# Altium schematic symbol library SparkFun-IC-Amplifiers.SCHLIB: 16 symbols
Pins are listed as number, name and electrical type; pins without a type are passive.

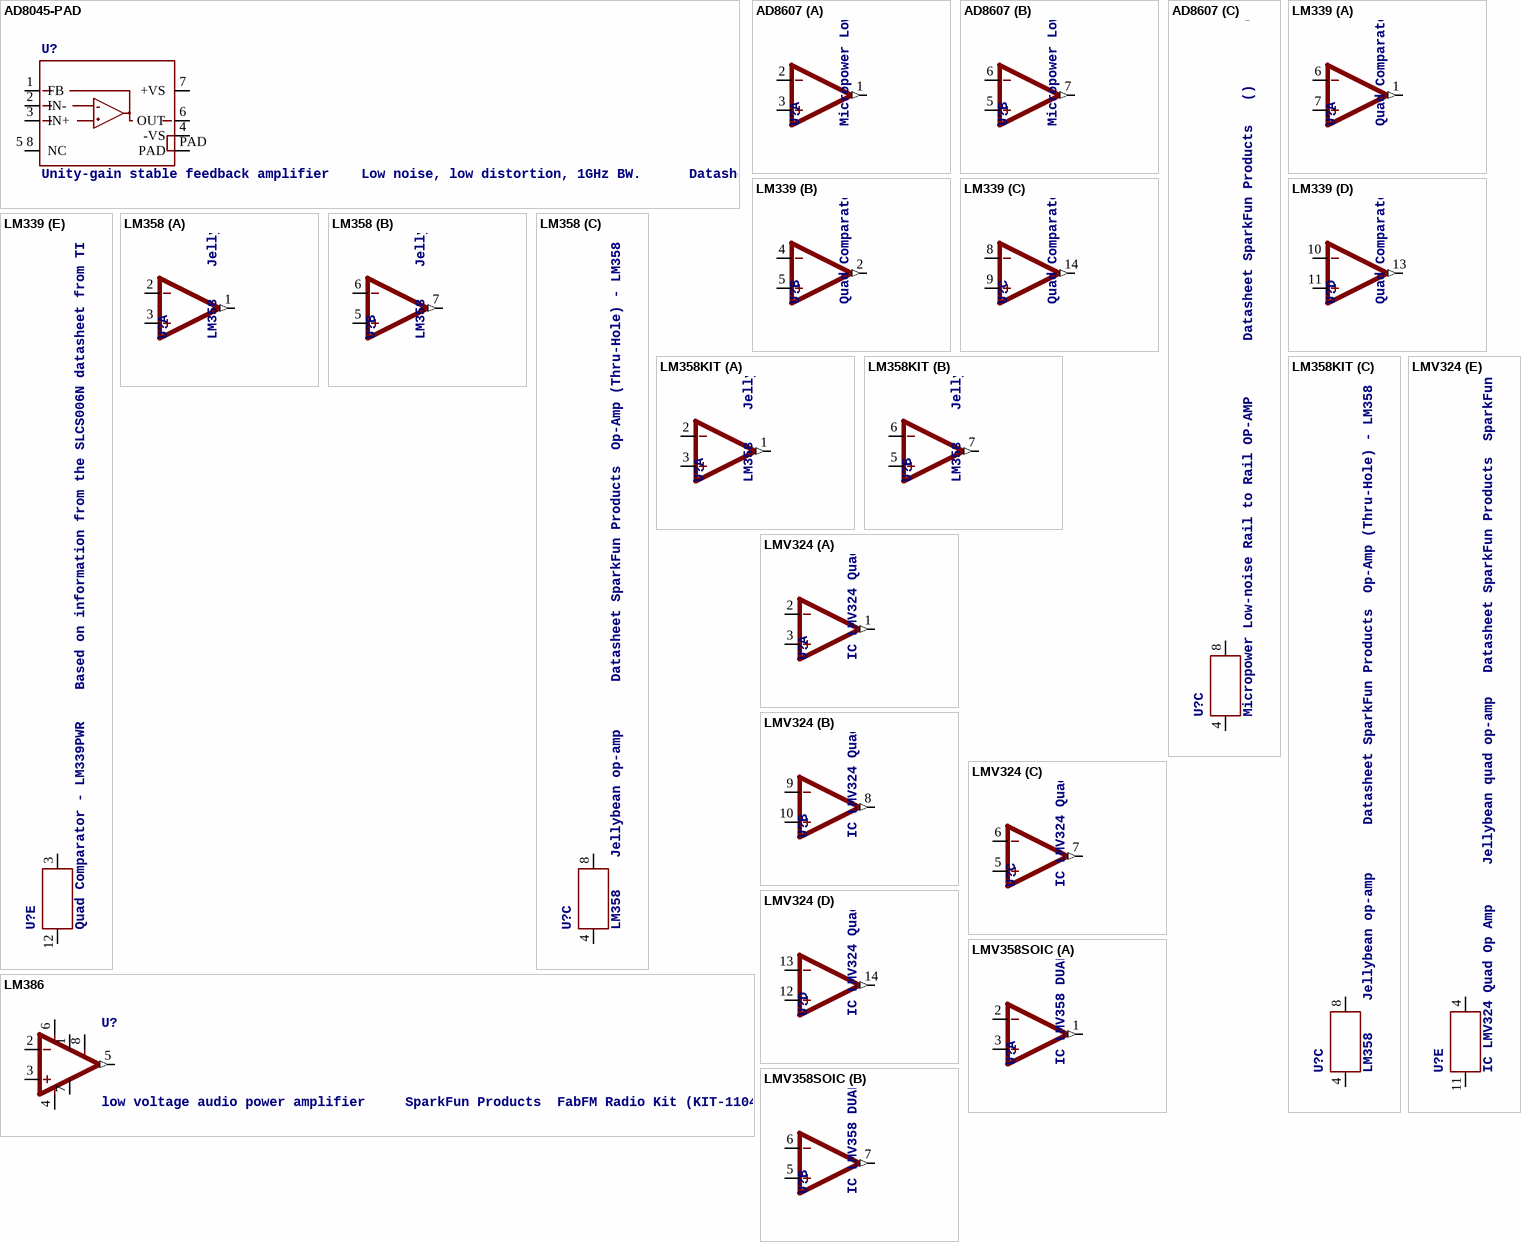
[diagram p0: symbols AD8045-PAD to LMV358SOIC]

## AD8045-PAD
designator U?, comment Unity-gain stable feedback amplifier    Low noise, low distortion, 1GHz BW.      Datasheet SparkFun Products  SparkFun MiniGen - Pro Mini Signal Generator Shield (BOB-11420)
PROD_ID: IC-11224
footprint SO08_PAD
pins: 1 FB, 2 IN-, 3 IN+, 4 -VS (power), 5 8 NC, 6 OUT, 7 +VS (power), PAD (power)

## AD8607
designator U?, comment Micropower Low-noise Rail to Rail OP-AMP       Datasheet SparkFun Products   ()        Currently in prototype (unknown project)
PROD_ID: IC-13133
footprint SO08
part A pins: 1 OUT (out), 2 -IN, 3 +IN
part B pins: 5 +IN, 6 -IN, 7 OUT (out)
part C pins: 4 P$V-, 8 P$V+

## LM339
designator U?, comment Quad Comparator - LM339PWR    Based on information from the SLCS006N datasheet from TI (www.ti.com).   Created by nick@scantool.net, 2008.  Updated 2016. SparkFun Products  SparkFun OBD-II UART (WIG-09555)  SparkFun Car Diagnostics Kit (RTL-10769)
PROD_ID: IC-09990
footprint TSSOP-14
part A pins: 1 OUT (out), 6 -IN, 7 +IN
part B pins: 2 OUT (out), 4 -IN, 5 +IN
part C pins: 8 -IN, 9 +IN, 14 OUT (out)
part D pins: 10 -IN, 11 +IN, 13 OUT (out)
part E pins: 3 P$V+, 12 P$V-

## LM358
designator U?, comment LM358    Jellybean op-amp      Datasheet SparkFun Products  Op-Amp (Thru-Hole) - LM358 (COM-09456)
PROD_ID: IC-09172
footprint DIP08
part A pins: 1 OUT (out), 2 -IN, 3 +IN
part B pins: 5 +IN, 6 -IN, 7 OUT (out)
part C pins: 4 P$V-, 8 P$V+

## LM358KIT
designator U?, comment LM358    Jellybean op-amp      Datasheet SparkFun Products  Op-Amp (Thru-Hole) - LM358 (COM-09456)
PROD_ID: IC-09172
footprint DIP08-KIT
part A pins: 1 OUT (out), 2 -IN, 3 +IN
part B pins: 5 +IN, 6 -IN, 7 OUT (out)
part C pins: 4 P$V-, 8 P$V+

## LM386
designator U?, comment low voltage audio power amplifier     SparkFun Products  FabFM Radio Kit (KIT-11043)
PROD_ID: IC-10899
footprint DIP08
pins: 1 GAIN@1, 2 -IN, 3 +IN, 4 V- (power), 5 OUT (out), 6 V+ (power), 7 BP, 8 GAIN@8

## LMV324
designator U?, comment IC LMV324 Quad Op Amp     Jellybean quad op-amp   Datasheet SparkFun Products  SparkFun Sensor Kit (DEV-13754)  SparkFun Inventor's Kit for Arduino 101 (KIT-13844)  SparkFun Sound Detector (SEN-12642)
PROD_ID: IC-08227
footprint SO14
part A pins: 1 OUT (out), 2 -IN, 3 +IN
part B pins: 8 OUT (out), 9 -IN, 10 +IN
part C pins: 5 +IN, 6 -IN, 7 OUT (out)
part D pins: 12 +IN, 13 -IN, 14 OUT (out)
part E pins: 4 P$V+, 11 P$V-

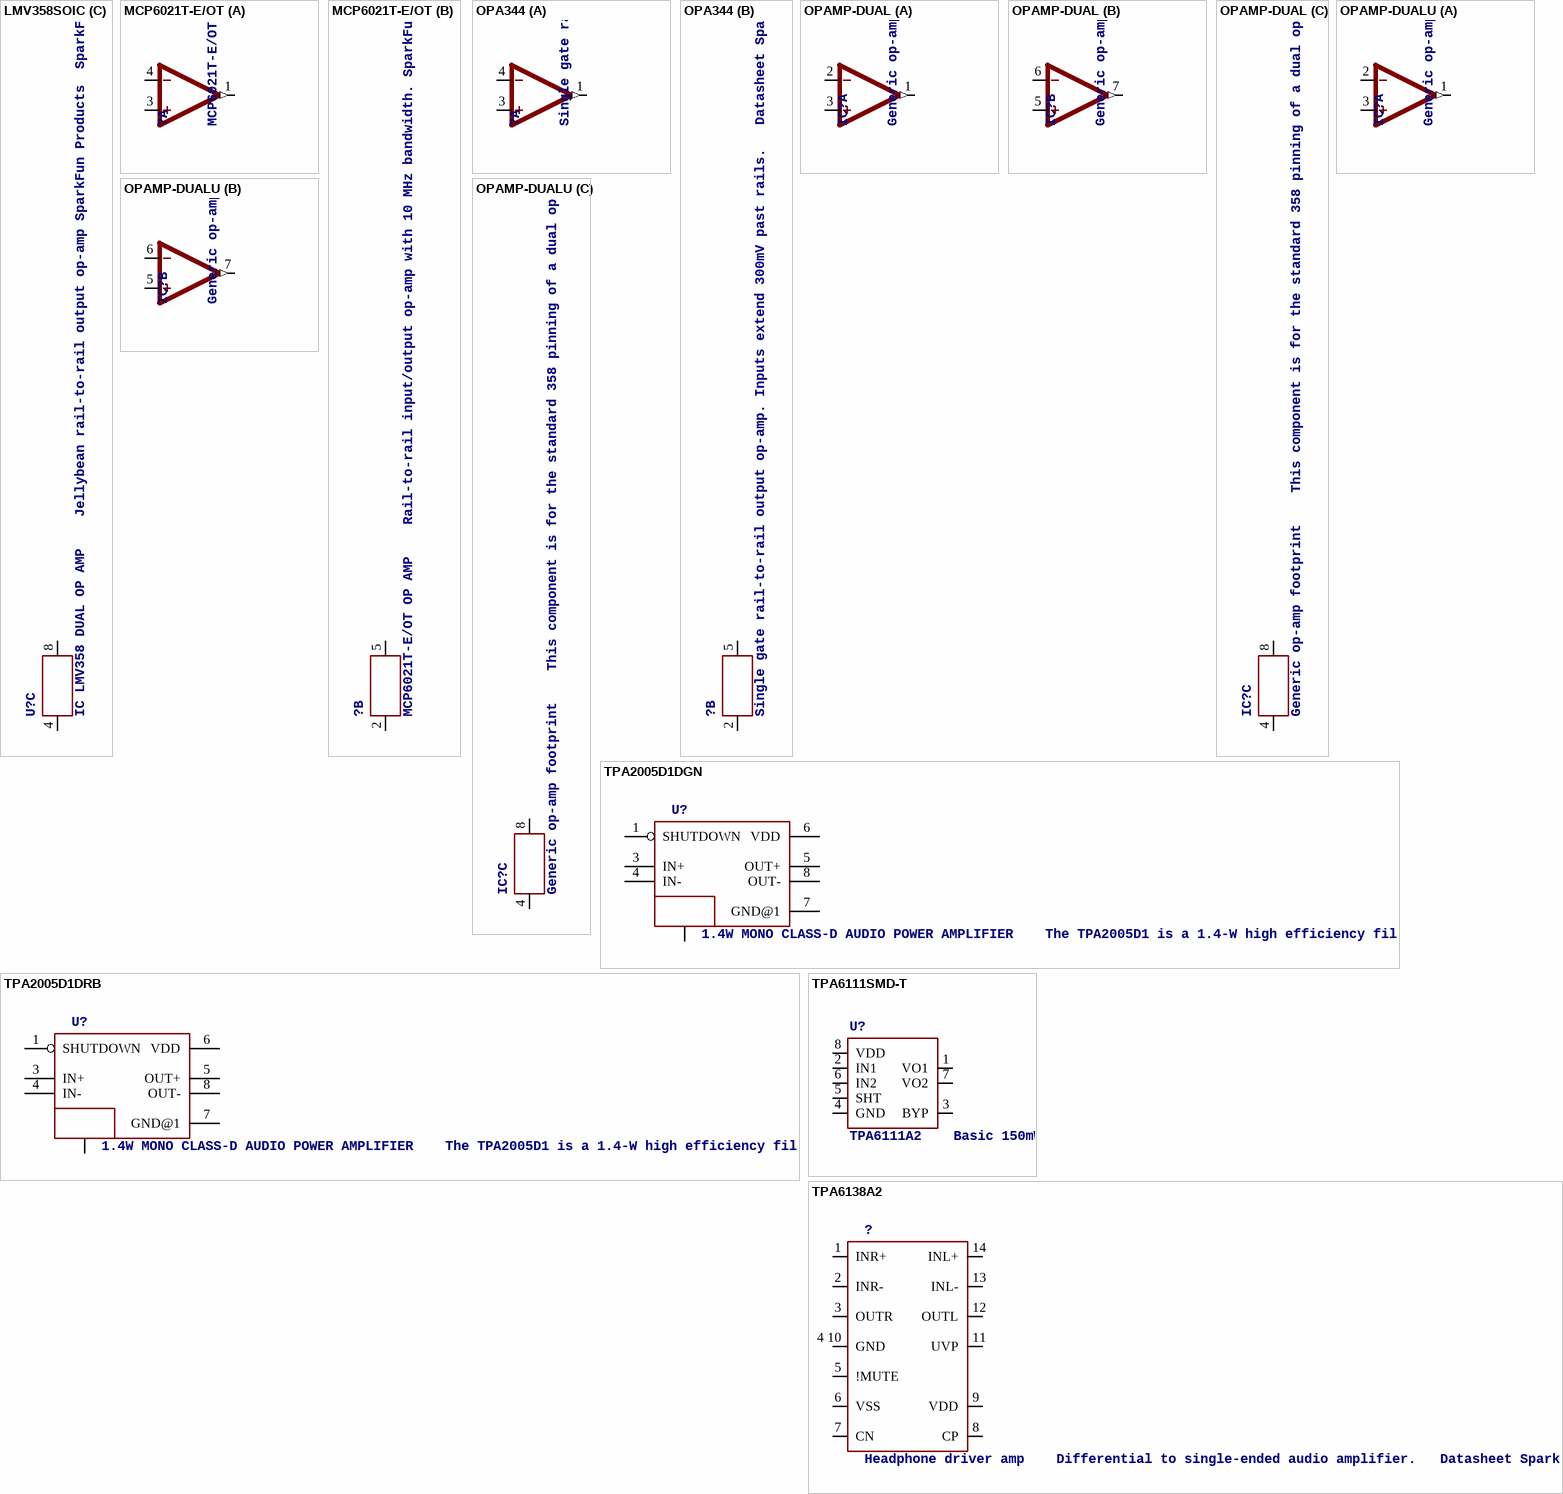
[diagram p1: symbols LMV358SOIC to TPA6138A2]

## LMV358SOIC
designator U?, comment IC LMV358 DUAL OP AMP    Jellybean rail-to-rail output op-amp SparkFun Products  SparkFun PicoBoard (WIG-11888)  SparkFun Vernier Interface Shield (DEV-12858)  SparkFun Blynk Board - ESP8266 (WRL-13794)  SparkFun Digital Sandbox (DEV-12651 RoHS)
PROD_ID: IC-09657
footprint SO08
part A pins: 1 OUT (out), 2 -IN, 3 +IN
part B pins: 5 +IN, 6 -IN, 7 OUT (out)
part C pins: 4 P$V-, 8 P$V+

## MCP6021T-E/OT
designator ?, comment MCP6021T-E/OT OP AMP    Rail-to-rail input/output op-amp with 10 MHz bandwidth. SparkFun Products  ZX Distance and Gesture Sensor (SEN-12780)
PROD_ID: IC-12504
footprint SOT23-5
part A pins: 1 OUT (out), 3 +IN, 4 -IN
part B pins: 2 P$V-, 5 P$V+

## OPA344
designator ?, comment Single gate rail-to-rail output op-amp. Inputs extend 300mV past rails.   Datasheet SparkFun Products  SparkFun Low Current Sensor (SEN-08883)  SparkFun Electret Microphone Breakout (BOB-12758)
PROD_ID: IC-08251
footprint SOT23-5
part A pins: 1 OUT (out), 3 +IN, 4 -IN
part B pins: 2 P$V-, 5 P$V+

## OPAMP-DUAL
designator IC?, comment Generic op-amp footprint    This component is for the standard 358 pinning of a dual op-amp   From the LM358 datasheet:    Pin 1: Output A  Pin 2: Inverting Input A  Pin 3: Non-Inverting Input A  Pin 4: Gnd  Pin 5: Non-Inverting Input B  Pin 6: Inverting Input B  Pin 7: Output B  Pin 8: V+
PROD_ID: NA-XXXXX
footprint DIP08
part A pins: 1 OUT (out), 2 -IN, 3 +IN
part B pins: 5 +IN, 6 -IN, 7 OUT (out)
part C pins: 4 P$V-, 8 P$V+

## OPAMP-DUALU
designator IC?, comment Generic op-amp footprint    This component is for the standard 358 pinning of a dual op-amp   From the LM358 datasheet:    Pin 1: Output A  Pin 2: Inverting Input A  Pin 3: Non-Inverting Input A  Pin 4: Gnd  Pin 5: Non-Inverting Input B  Pin 6: Inverting Input B  Pin 7: Output B  Pin 8: V+
PROD_ID: NA-XXXXX
footprint SO08
part A pins: 1 OUT (out), 2 -IN, 3 +IN
part B pins: 5 +IN, 6 -IN, 7 OUT (out)
part C pins: 4 P$V-, 8 P$V+

## TPA2005D1DGN
designator U?, comment 1.4W MONO CLASS-D AUDIO POWER AMPLIFIER    The TPA2005D1 is a 1.4-W high efficiency filter-free class-D audio power amplifier in a BGA, QFN, or MSOP package that requires only three external components.   Datasheet: http://focus.ti.com/lit/ds/symlink/tpa2005d1.pdf 1.4 W Into 8 ? From a 5V Supply at THD = 10% (Typ)  Maximum Battery Life and Minimum Heat  Efficiency With an 8-? Speaker: 84% at 400 mW, 79% at 100 mW  2.8-mA Quiescent Current  0.5-mA Shutdown Current  Ideal for Wireless or Cellular Handsets and PDAs  Capable of Driving an 8-? Speaker (2.5 V ? VDD ? 5.5 V) and a 4-? Speaker (2.5 V ? VDD ? 4.2 V)  Only Three External Components  Optimized PWM Output Stage Eliminates LC Output Filter  Internally Generated 250-kHz Switching Frequency Eliminates Capacitor and Resistor  Improved PSRR (-71 dB at 217 Hz) and Wide Supply Voltage (2.5 V to 5.5 V) Eliminates Need for a Voltage Regulator  Fully Differential Design Reduces RF Rectification and Eliminates Bypass Capacitor  Improved CMRR Eliminates Two Input Coupling Capacitors     SparkFun Products  SparkFun Mono Audio Amp Breakout - TPA2005D1 (BOB-11044)    Note:  SparkFun currenly only uses the QFN style part
PROD_ID: NA-XXXXX
footprint POWER-SOP8
pins: 1 SHUTDOWN, 3 IN+, 4 IN-, 5 OUT+, 6 VDD (power), 7 GND@1 (power), 8 OUT-, 9 GND@2 (power)

## TPA2005D1DRB
designator U?, comment 1.4W MONO CLASS-D AUDIO POWER AMPLIFIER    The TPA2005D1 is a 1.4-W high efficiency filter-free class-D audio power amplifier in a BGA, QFN, or MSOP package that requires only three external components.   Datasheet: http://focus.ti.com/lit/ds/symlink/tpa2005d1.pdf 1.4 W Into 8 ? From a 5V Supply at THD = 10% (Typ)  Maximum Battery Life and Minimum Heat  Efficiency With an 8-? Speaker: 84% at 400 mW, 79% at 100 mW  2.8-mA Quiescent Current  0.5-mA Shutdown Current  Ideal for Wireless or Cellular Handsets and PDAs  Capable of Driving an 8-? Speaker (2.5 V ? VDD ? 5.5 V) and a 4-? Speaker (2.5 V ? VDD ? 4.2 V)  Only Three External Components  Optimized PWM Output Stage Eliminates LC Output Filter  Internally Generated 250-kHz Switching Frequency Eliminates Capacitor and Resistor  Improved PSRR (-71 dB at 217 Hz) and Wide Supply Voltage (2.5 V to 5.5 V) Eliminates Need for a Voltage Regulator  Fully Differential Design Reduces RF Rectification and Eliminates Bypass Capacitor  Improved CMRR Eliminates Two Input Coupling Capacitors     SparkFun Products  SparkFun Mono Audio Amp Breakout - TPA2005D1 (BOB-11044)    Note:  SparkFun currenly only uses the QFN style part
PROD_ID: IC-10975
footprint QFN-8_PAD
pins: 1 SHUTDOWN, 3 IN+, 4 IN-, 5 OUT+, 6 VDD (power), 7 GND@1 (power), 8 OUT-, 9 10 11 12 13 GND@2 (power)

## TPA6111SMD-T
designator U?, comment TPA6111A2    Basic 150mW stereo headphone amplifier. SparkFun Products  SparkFun FM Tuner Evaluation Board - Si4703 (WRL-12938)
PROD_ID: IC-10149
footprint SO08
pins: 1 VO1, 2 IN1, 3 BYP, 4 GND, 5 SHT, 6 IN2, 7 VO2, 8 VDD

## TPA6138A2
designator ?, comment Headphone driver amp    Differential to single-ended audio amplifier.   Datasheet SparkFun Products  SparkFun Purpletooth Jamboree - BC127 Development Board (WRL-11924)
PROD_ID: IC-11779
footprint TSSOP-14
pins: 1 INR+, 2 INR-, 3 OUTR, 4 10 GND, 5 !MUTE, 6 VSS, 7 CN, 8 CP, 9 VDD, 11 UVP, 12 OUTL, 13 INL-, 14 INL+